# Altium footprint library Isolated Gate Driver Bias Supply pcblib.PcbLib: 19 footprints (part 1 of 2)
Each footprint in its own frame and in the unit in brackets; x right, y up, seen from the top. Pads: shape width x height; smd on the part's side, far side on the other; paste and mask are expansions set on the pad; w line width, h text height; cw(c..) or ccw(c..) is an arc to the next point about the centre after c.
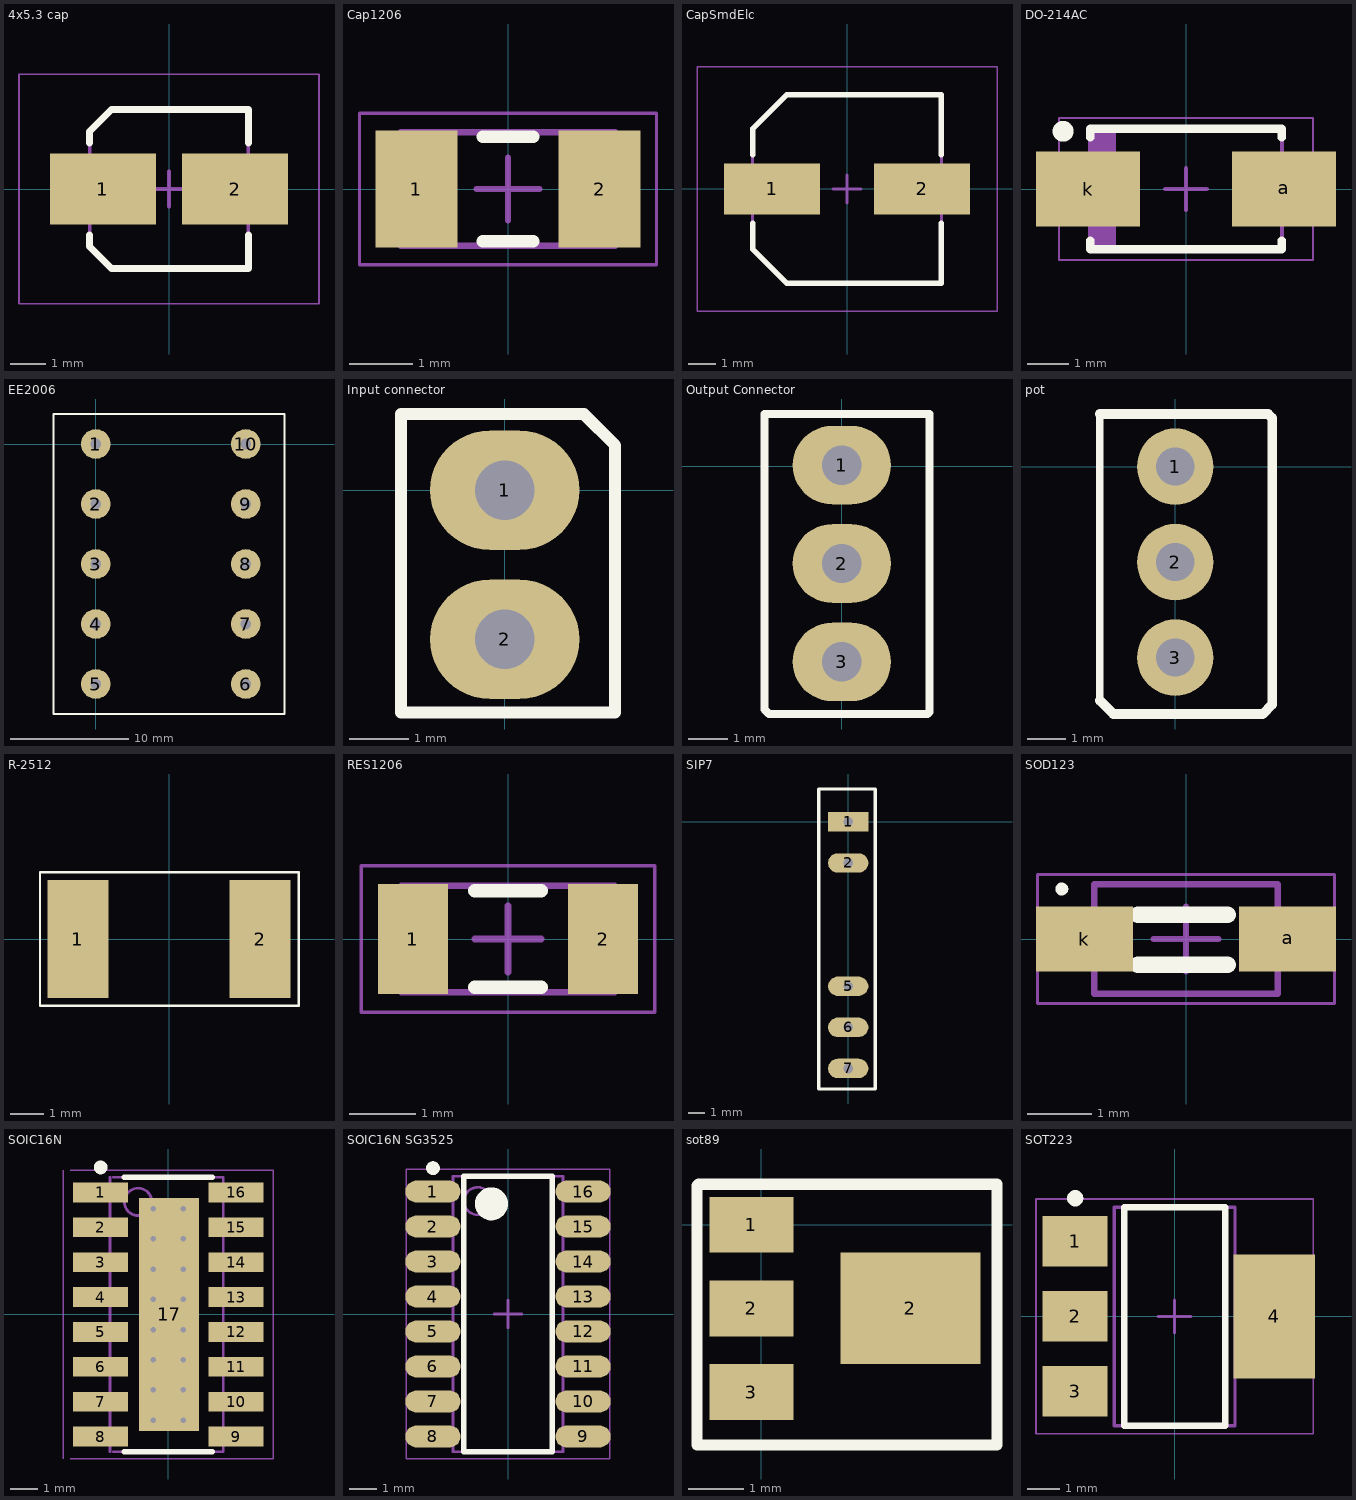
[diagram p0: the footprints below, top view; thin cyan lines are the x and y axes]

## 4x5.3 cap [mm]
height 5.5
pads (2):
  rect 3x2 smd: 1(-1.875,0) 2(1.875,0)
Top Overlay:
  lines w0.2: -2.25,-1.3 -2.25,-1.625 -1.625,-2.25 2.25,-2.25 2.25,-1.3 ; -2.25,1.3 -2.25,1.625 -1.625,2.25 2.25,2.25 2.25,1.3
Assembly Top:
  lines w0.1: -2.25,-1.625 -2.25,1.625 -1.625,2.25 2.25,2.25 2.25,-2.25 -1.625,-2.25 -2.25,-1.625
Courtyard Top:
  lines w0.05: -4.25,-3.25 4.25,-3.25 4.25,3.25 -4.25,3.25 -4.25,-3.25
  lines w0.1: -0.5,0 0.5,0 ; 0,-0.5 0,0.5
3D body "User Library-4x5_4.step": height 5.71, standoff 0.01, extent -2.633,-2.15 2.667,2.15

## Cap1206 [mm]
height 1
pads (2):
  rect 1.3x1.85 smd: 1(-1.45,0) 2(1.45,0)
Top Overlay:
  lines w0.2: -0.4,-0.825 0.4,-0.825 ; -0.4,0.825 0.4,0.825
Assembly Top:
  lines w0.1: -1.7,-0.9 1.7,-0.9 1.7,0.9 -1.7,0.9 -1.7,-0.9
Courtyard Top:
  lines w0.05: -2.35,-1.2 2.35,-1.2 2.35,1.2 -2.35,1.2 -2.35,-1.2
  lines w0.1: -0.5,0 0.5,0 ; 0,-0.5 0,0.5
3D body "User Library-Vhip cap 1206.step": height 1.75, standoff 0.01, extent -1.65,-0.85 1.55,0.85

## CapSmdElc [mm] "Aluminum Electrolytic Capacitor, Body 6.70x6.70x6.30mm, IPC Low Density"
height 6.3
pads (2):
  rect 3.45x1.85 smd: 1(-2.7,0) 2(2.7,0)
Top Overlay:
  lines w0.2: -3.4,-1.225 -3.4,-2.163 -2.163,-3.4 3.4,-3.4 3.4,-1.225 ; -3.4,1.225 -3.4,2.163 -2.163,3.4 3.4,3.4 3.4,1.225
Assembly Top:
  lines w0.1: -3.4,-2.163 -3.4,2.163 -2.163,3.4 3.4,3.4 3.4,-3.4 -2.163,-3.4 -3.4,-2.163
Courtyard Top:
  lines w0.05: -5.4,-4.4 5.4,-4.4 5.4,4.4 -5.4,4.4 -5.4,-4.4
  lines w0.1: -0.5,0 0.5,0 ; 0,-0.5 0,0.5
3D body "User Library-Nichicon_CW6_3x7.STEP": height 6.92, standoff 0.01, extent -3.45,-3.275 3.55,3.325

## DO-214AC [mm]
height 1.35
pads (2):
  rect 2.5x1.8 smd: a(2.35,0) k(-2.35,0)
Top Overlay:
  circle w0.25: c-2.95,1.385 r0.125
  lines w0.2: -2.3,-1.235 -2.3,-1.45 2.3,-1.45 2.3,-1.235 ; -2.3,1.235 -2.3,1.45 2.3,1.45 2.3,1.235
Assembly Top:
  rectangle: -2.3,-1.45 -1.681,1.45
  lines w0.1: -2.3,-1.45 -2.3,1.45 2.3,1.45 2.3,-1.45 -2.3,-1.45
Courtyard Top:
  lines w0.05: -3.05,-1.7 -3.05,1.7 3.05,1.7 3.05,-1.7 -3.05,-1.7
  lines w0.1: -0.5,0 0.5,0 ; 0,-0.5 0,0.5
3D body "User Library-DO-214AC(SMA).STEP": height 2.3, standoff 0.01, extent -2.768,-1.422 2.718,1.372

## EE2006 [mm]
pads (10):
  round 2.5 hole 0.9: 1(0,0) 2(0,-5.08) 3(0,-10.16) 4(0,-15.24) 5(0,-20.32) 6(12.7,-20.32) 7(12.7,-15.24) 8(12.7,-10.16) 9(12.7,-5.08) 10(12.7,0)
Top Overlay:
  lines w0.2: -3.575,-22.86 15.975,-22.86 15.975,2.54 7.62,2.54 5.08,2.54 -3.575,2.54 -3.575,-22.86

## Input connector [mm]
pads (2):
  oval 2.5x2 hole 1: 1(0,0) 2(0,-2.5)
Top Overlay:
  lines w0.2: 0.6,1.275 1.325,1.275 1.85,0.75 1.85,-3.725 -1.74,-3.725 -1.74,1.275 0.65,1.275
3D body "User Library-Header_Male_2Pin.STEP": height 8.54, standoff -3, extent -1.245,-3.77 1.245,1.31

## Output Connector [mm]
pads (3):
  oval 2.5x2 hole 1: 1(0,0.025) 2(0,-2.475) 3(0,-4.975)
Top Overlay:
  lines w0.2: -1.965,-6.185 -1.965,1.325 2.225,1.325 2.225,-6.25 2.175,-6.3 0.45,-6.3 -1.85,-6.3 -1.965,-6.185
3D body: height 1.4, standoff -1.4, extent -5,-0.775 -5,-0.775
3D body "Pin Header 1x3 TH Pitch 2.54mm.stp": height 9.21, standoff -3.49, extent -1.27,-6.245 1.27,1.375

## pot [mm]
pads (3):
  round 2 hole 1: 1(0,0) 2(0,-2.5) 3(0,-5)
Top Overlay:
  lines w0.2: -1.975,-6.123 -1.975,1.377 ; 2.54,-6.23 2.54,1.27
  lines w0.254: -1.975,-6.123 -1.621,-6.477 2.293,-6.477 2.54,-6.23 2.54,1.27 2.433,1.377 -1.975,1.377
3D body "Trimmer 3296.SLDPRT": height 11.36, standoff -2.99, extent -2.079,-7.34 2.921,2.26

## R-2512 [mm]
pads (2):
  rect 1.8x3.5 smd: 1(-2.7,0) 2(2.7,0)
Top Overlay:
  lines w0.07: -3.825,-1.975 -3.825,0.525 -3.825,1.975 3.85,1.975 3.85,-1.975 -3.825,-1.975
3D body "User Library-R SMD 2512.STEP": height 0.59, standoff -0.01, extent -3.206,-1.575 3.094,1.575

## RES1206 [mm] "Chip Resistor, 2-Leads, Body 3,15x1,58mm, IPC Medium Density"
height 0.6
pads (2):
  rect 1.05x1.65 smd: 1(-1.425,0) 2(1.425,0)
Top Overlay:
  lines w0.2: -0.5,-0.725 0.5,-0.725 ; -0.5,0.725 0.5,0.725
Assembly Top:
  lines w0.1: -1.6,-0.8 -1.6,0.8 1.6,0.8 1.6,-0.8 -1.6,-0.8
Courtyard Top:
  lines w0.05: -2.2,-1.1 -2.2,1.1 2.2,1.1 2.2,-1.1 -2.2,-1.1
  lines w0.1: -0.5,0 0.5,0 ; 0,-0.5 0,0.5
3D body "User Library-CR3216-1206.step": height 0.61, standoff 0.01, extent -1.6,-0.775 1.6,0.825

## SIP7 [mm]
pads (5):
  rect 2.5x1.2 hole 0.6: 1(0,0)
  oval 2.5x1.2 hole 0.6: 2(0,-2.54) 5(0,-10.16) 6(0,-12.7) 7(0,-15.24)
Top Overlay:
  lines w0.2: -1.825,-16.51 -1.825,2.032 1.675,2.032 1.675,-16.51 -1.825,-16.51

## SOD123 [mm]
height 1.35
pads (2):
  rect 1.5x1 smd: a(1.575,0) k(-1.575,0)
Top Overlay:
  circle w0.1: c-1.925,0.775 r0.05
  lines w0.254: -0.75,-0.4 0.65,-0.4 ; -0.75,0.375 0.65,0.375
Assembly Top:
  lines w0.1: -1.425,-0.85 -1.425,0.85 1.425,0.85 1.425,-0.85 -1.425,-0.85
Courtyard Top:
  lines w0.05: -2.3,-1 -2.3,1 2.3,1 2.3,-1 -2.3,-1
  lines w0.1: -0.5,0 0.5,0 ; 0,-0.5 0,0.5
3D body "CircuitWorks-SOD123.STEP": height 1.28, standoff 0.01, extent -1.85,-0.8 1.85,0.8

## SOIC16N [mm]
height 1.75
pads (17):
  rect 2x0.72 smd: 1(-2.465,4.445) 2(-2.465,3.175) 3(-2.465,1.905) 4(-2.465,0.635) 5(-2.465,-0.635) 6(-2.465,-1.905) 7(-2.465,-3.175) 8(-2.465,-4.445) 9(2.465,-4.445) 10(2.465,-3.175) 11(2.465,-1.905) 12(2.465,-0.635) 13(2.465,0.635) 14(2.465,1.905) 15(2.465,3.175) 16(2.465,4.445)
  rect 2.2x8.5 smd: 17(0.025,0)
via 0.55,-3.85 diameter 0.5 hole 0.2
via -0.55,-3.85 diameter 0.5 hole 0.2
via 0.55,-2.75 diameter 0.5 hole 0.2
via -0.55,-2.75 diameter 0.5 hole 0.2
via 0.55,-1.65 diameter 0.5 hole 0.2
via -0.55,-1.65 diameter 0.5 hole 0.2
via 0.55,-0.55 diameter 0.5 hole 0.2
via -0.55,-0.55 diameter 0.5 hole 0.2
via 0.55,0.55 diameter 0.5 hole 0.2
via -0.55,0.55 diameter 0.5 hole 0.2
via 0.55,1.65 diameter 0.5 hole 0.2
via -0.55,1.65 diameter 0.5 hole 0.2
via 0.55,2.75 diameter 0.5 hole 0.2
via -0.55,2.75 diameter 0.5 hole 0.2
via 0.55,3.85 diameter 0.5 hole 0.2
via -0.55,3.85 diameter 0.5 hole 0.2
Top Overlay:
  circle w0.25: c-2.465,5.355 r0.125
  lines w0.2: -1.6,-5 1.6,-5 ; -1.6,5 1.6,5
Assembly Top:
  circle w0.1: c-1.1,4.1 r0.5
  lines w0.1: -2.125,-5 -2.125,5 ; -2,-5 2,-5 2,5 -2,5
Courtyard Top:
  lines w0.05: -3.825,-5.25 -3.825,5.25 ; -3.575,-5.25 3.825,-5.25 3.825,5.25 -3.575,5.25
  lines w0.1: -0.5,0 0.5,0 ; 0,-0.5 0,0.5
3D body "User Library-SOIC-16-1.step": height 1.26, standoff -0.14, extent -3,-4.95 3,4.95

## SOIC16N SG3525 [mm] "SOIC, 16-Leads, Body 9,90x3,90mm, Pitch 1,27mm, IPC Medium Density"
height 1.75
pads (16):
  oval 2x0.8 smd: 1(-2.725,4.445) 2(-2.725,3.175) 3(-2.725,1.905) 4(-2.725,0.635) 5(-2.725,-0.635) 6(-2.725,-1.905) 7(-2.725,-3.175) 8(-2.725,-4.445) 9(2.725,-4.445) 10(2.725,-3.175) 11(2.725,-1.905) 12(2.725,-0.635) 13(2.725,0.635) 14(2.725,1.905) 15(2.725,3.175) 16(2.725,4.445)
Top Overlay:
  circle w0.6: c-0.6,4 r0.3
  circle w0.25: c-2.725,5.295 r0.125
  lines w0.2: -1.6,-5 1.6,-5 1.6,5 -1.6,5 -1.6,-5
Assembly Top:
  circle w0.1: c-1.1,4.1 r0.5
  lines w0.1: -2,-5 2,-5 2,5 -2,5 -2,-5
Courtyard Top:
  lines w0.05: -3.7,-5.25 3.7,-5.25 3.7,5.25 -3.7,5.25 -3.7,-5.25
  lines w0.1: -0.5,0 0.5,0 ; 0,-0.5 0,0.5
3D body "User Library-SOIC-16-1.step": height 1.26, standoff -0.14, extent -3.05,-4.95 2.95,4.95

## sot89 [mm]
pads (4):
  rect 1.5x1 smd: 1(-0.175,0) 2(-0.175,-1.5) 3(-0.175,-3)
  rect 2.5x2 smd: 2(2.675,-1.5)
Top Overlay:
  lines w0.2: -1.15,0.7 -1.15,-3.95 4.225,-3.95 4.225,0.725 -1.125,0.725
3D body "User Library-SOT-89-4.STEP": height 1.51, standoff 0.01, extent -0.473,-3.8 3.623,0.7

## SOT223 [mm] "SOT223, 4-Leads, Body 6.50x7.00mm (avg), Pitch 2.30mm, IPC Medium Density"
height 1.8
pads (4):
  rect 2x1.55 smd: 1(-3.05,2.3) 2(-3.05,0) 3(-3.05,-2.3)
  rect 2.5x3.8 smd: 4(3.05,0)
Top Overlay:
  circle w0.25: c-3.05,3.625 r0.125
  lines w0.2: -1.55,-3.35 1.55,-3.35 1.55,3.35 -1.55,3.35 -1.55,-3.35
Assembly Top:
  lines w0.1: -1.85,-3.35 1.85,-3.35 1.85,3.35 -1.85,3.35 -1.85,-3.35
Courtyard Top:
  lines w0.05: -4.25,-3.6 4.25,-3.6 4.25,3.6 -4.25,3.6 -4.25,-3.6
  lines w0.1: -0.5,0 0.5,0 ; 0,-0.5 0,0.5
3D body: height 0.8, standoff -0.8, extent 3.225,-6.7 3.225,-6.7
3D body "CircuitWorks-SOT-223.STEP": height 1.61, standoff -0.07, extent -3.455,-3.275 3.505,3.225